# EAGLE library part GRPB072VWQP (library con-sullins-grpb)
HEADER
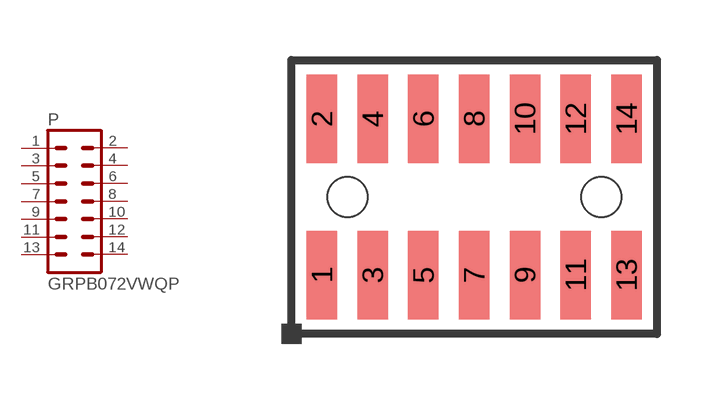
[diagram p4: symbol with the pads of GRPB072VWQP; footprint GRPB072VWQP]

Designator prefix P

## GRPB072VWQP  [GRPB072VWQP]
1  1  pas
2  2  pas
3  3  pas
4  4  pas
5  5  pas
6  6  pas
7  7  pas
8  8  pas
9  9  pas
10  10  pas
11  11  pas
12  12  pas
13  13  pas
14  14  pas

## Footprint GRPB072VWQP (pad centres in mm)
HEADER
smd 0.762 x 2.21: 1 -3.81,-1.956; 2 -3.81,1.956; 3 -2.54,-1.956; 4 -2.54,1.956; 5 -1.27,-1.956; 6 -1.27,1.956; 7 0,-1.956; 8 0,1.956; 9 1.27,-1.956; 10 1.27,1.956; 11 2.54,-1.956; 12 2.54,1.956; 13 3.81,-1.956; 14 3.81,1.956
hole 1 at -3.175,0
hole 1 at 3.175,0